# Altium footprint library SoldeerStation.PcbLib: 35 footprints (part 3 of 3)
Each footprint in its own frame and in the unit in brackets; x right, y up, seen from the top. Pads: shape width x height; smd on the part's side, far side on the other; paste and mask are expansions set on the pad; w line width, h text height; cw(c..) or ccw(c..) is an arc to the next point about the centre after c.
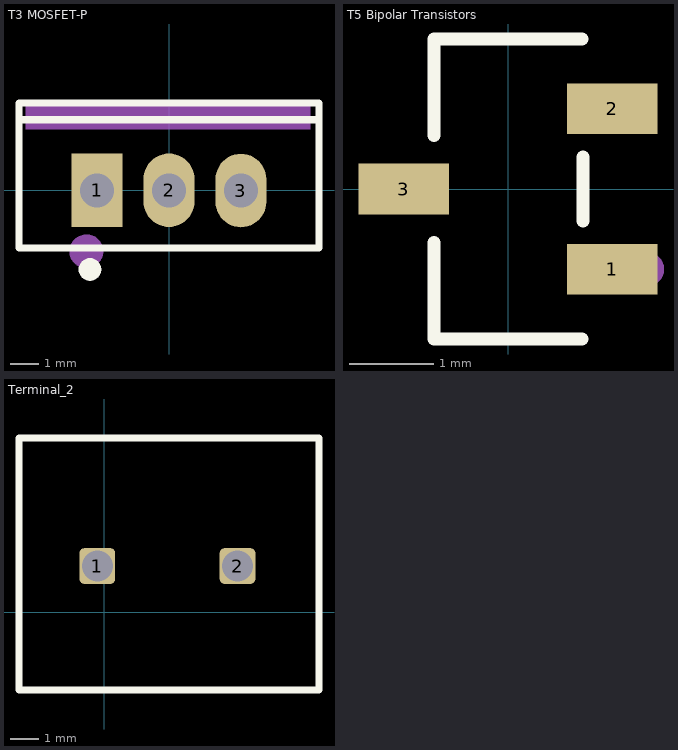
[diagram p2: the footprints below, top view; thin cyan lines are the x and y axes]

## T3 MOSFET-P [mm] "TO-220-3_L10.0-W4.5-P2.54-L"
pads (3):
  rect 1.8x2.6 hole 1.2: 1(-2.54,0.005)
  oval 1.8x2.6 hole 1.2: 2(0,0.005) 3(2.54,-0.005)
Top Overlay:
  lines w0.254: -5.3,2.495 5.3,2.495 ; -5.301,-2.032 -5.301,3.089 -5.301,3.094 5.301,3.094 5.301,-2.032 -5.301,-2.032
  lines w0.4: -2.795,-2.594 ccw(c-2.794,-2.794) -2.793,-2.594
Mechanical 15:
  circle w0.6: c-2.921,-2.154 r0.3
  region: -5.06,3.01 -5.06,2.17 4.99,2.17 4.99,3.01

## T5 Bipolar Transistors [mm] "SOT-23-3_L2.9-W1.6-P1.90-LS2.8-BR"
pads (3):
  rect 1.07x0.6 smd: 1(1.235,-0.95) 2(1.235,0.95) 3(-1.235,0)
Top Overlay:
  lines w0.152: -0.876,-0.635 -0.876,-1.778 0.876,-1.778 ; -0.876,0.635 -0.876,1.778 0.876,1.778 ; 0.889,-0.381 0.889,0.381
Mechanical 15:
  circle w0.2: c1.651,-0.95 r0.1

## Terminal_2 [mil]
pads (2):
  rrect25% 50x50 hole 43.31: 1(-10,65) 2(186.85,65)
Top Overlay:
  lines w10: -120,-109.33 301.26,-109.33 301.26,245 -120,245 -120,-109.33